# Altium footprint library FUSE_50A.PcbLib: 1 footprints
Each footprint in its own frame and in the unit in brackets; x right, y up, seen from the top. Pads: shape width x height; smd on the part's side, far side on the other; paste and mask are expansions set on the pad; w line width, h text height; cw(c..) or ccw(c..) is an arc to the next point about the centre after c.
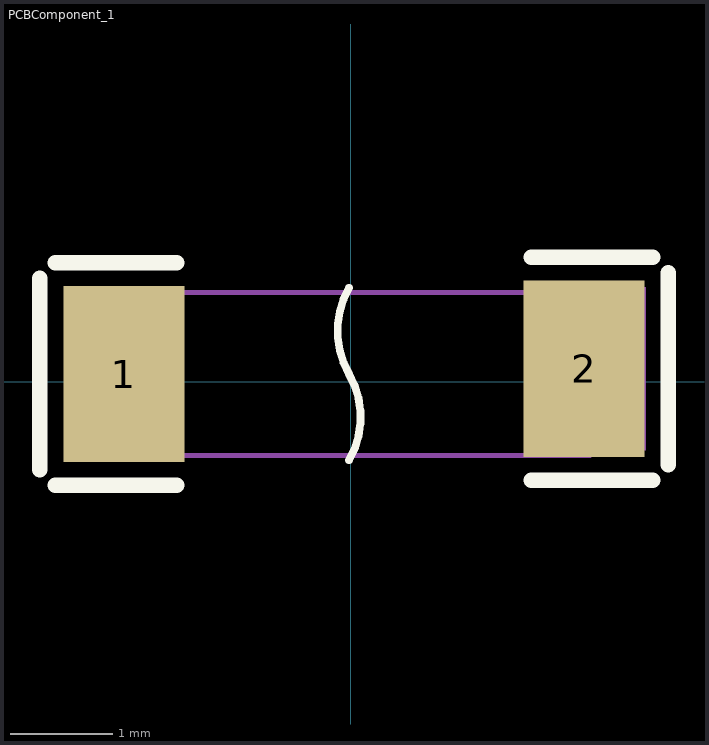
[diagram p0: the footprint, top view; thin cyan lines are the x and y axes]

## PCBComponent_1 [mil]
pads (2):
  rect 46.85x68.03 smd paste+0 mask+2: 1(-87.57,3.02) 2(90,5)
Top Overlay:
  lines w3: -0.68,-30.25 ccw(c-29.49,-13.62) -0.68,3.02 cw(c28.13,19.65) -0.68,36.28
  lines w6: -120,-34 -120,40.03 ; -114,-40 -67.14,-40 ; -114,46.03 -67.14,46.03 ; 69.58,-38.02 116.43,-38.02 ; 69.58,48.02 116.43,48.02 ; 122.43,-32.02 122.43,42.02
Mechanical 15:
  region: 68.79,-26.5 113.79,-26.5 113.79,36.5 68.79,36.5
  region: -110,-28.48 -65,-28.48 -65,34.51 -110,34.51
  region: -91.31,-28.48 -91.34,-27.53 -92.71,-26.19 -94.63,-26.19 -96,-27.52 -96.03,-28.48 -96,-29.44 -94.63,-30.77 -92.71,-30.78 -91.34,-29.44 -91.31,-28.48
  lines w2: -93.67,-28.48 -93.67,34.51 ; -83.67,-28.48 92.31,-28.48 ; -83.67,34.51 72.63,34.51 ; 96.1,-26.5 96.1,36.5
3D body "User Library-Fuse2.sldprt": height 97.44, standoff -4.92, extent -120.08,-50 120.08,52.36